# EAGLE library part ZX62-AB-5PA (library Zero_V1.0)
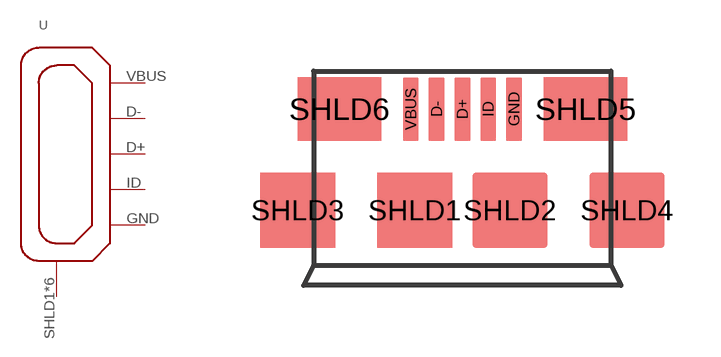
[diagram p4: symbol with the pads of USB-MICRO-10103594; footprint USB-MICRO-10103594]

Designator prefix -

## ZX62-AB-5PA  [USB-MICRO-10103594]
D+  D+
D-  D-
GND  GND
ID  ID
SHLD1  SH
SHLD2  SH
SHLD3  SH
SHLD4  SH
SHLD5  SH
SHLD6  SH
VBUS  VUSB

## Footprint USB-MICRO-10103594 (pad centres in mm)
USB Series Micro Surface Mounted (FCI 609-4050-6-ND)
smd 0.4 x 1.6: D+ 0,0; D- -0.65,0; GND 1.3,0; ID 0.65,0; VBUS -1.3,0
smd 1.9 x 1.9: SHLD1 -1.2,-2.55; SHLD2 1.2,-2.55; SHLD3 -4.15,-2.55; SHLD4 4.15,-2.55
smd 2.1 x 1.6: SHLD5 3.1,0; SHLD6 -3.1,0